# Altium footprint library PCB - LEADLESS - SON - TI X2SON-6 DSF.PCBLIB: 1 footprints
Each footprint in its own frame and in the unit in brackets; x right, y up, seen from the top. Pads: shape width x height; smd on the part's side, far side on the other; paste and mask are expansions set on the pad; w line width, h text height; cw(c..) or ccw(c..) is an arc to the next point about the centre after c.
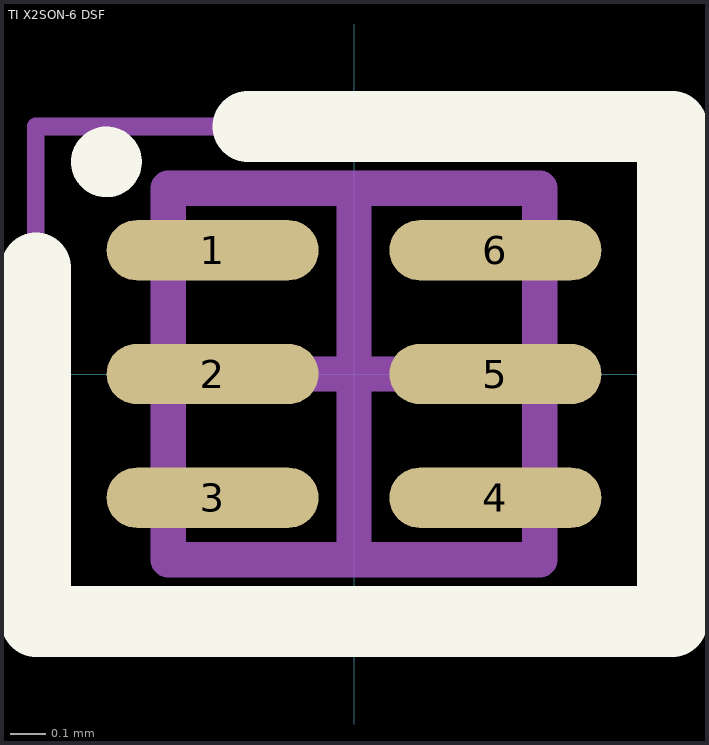
[diagram p0: the footprint, top view; thin cyan lines are the x and y axes]

## TI X2SON-6 DSF [mm] "SON, 6-Leads, Body 1.00x1.00mm, Pitch 0.35mm, IPC Medium Density"
height 0.4
pads (6):
  oval 0.6x0.17 smd paste+0 mask+0.02: 1(-0.4,0.35) 2(-0.4,0) 3(-0.4,-0.35) 4(0.4,-0.35) 5(0.4,0) 6(0.4,0.35)
Top Overlay:
  circle w0.1: c-0.7,0.6 r0.05
  lines w0.2: -0.9,0.3 -0.9,-0.7 0.9,-0.7 0.9,0.7 -0.3,0.7
Mechanical 13:
  lines w0.1: -0.525,-0.525 -0.525,0.525 0.525,0.525 0.525,-0.525 -0.525,-0.525
Mechanical 15:
  lines w0.05: -0.9,-0.7 -0.9,0.7 0.9,0.7 0.9,-0.7 -0.9,-0.7
  lines w0.1: -0.5,0 0.5,0 ; 0,-0.5 0,0.5
3D body "TI X2SON-6 DSF.step": height 0.4, standoff 0, extent -0.526,-0.525 0.526,0.525